# EAGLE library part MCP79522 (library NixieDisplay)
Real Time Clock (RTC) IC Clock/Calendar 64B SPI
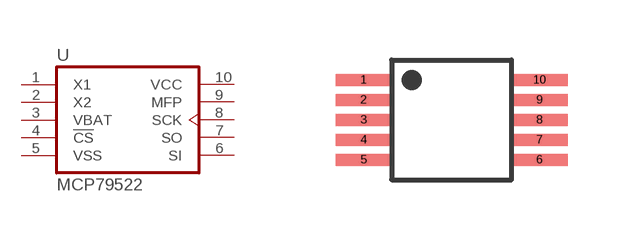
[diagram p9: symbol with the pads of MSOP-10; footprint MSOP-10]

Designator prefix U

## MCP79522  [MSOP-10]
1  X1
2  X2
3  VBAT  pwr
4  !CS
5  VSS  pwr
6  SI
7  SO
8  SCK
9  MFP
10  VCC  pwr

## Footprint MSOP-10 (pad centres in mm)
smd 1.4 x 0.3: 1 -2.2,1; 2 -2.2,0.5; 3 -2.2,0; 4 -2.2,-0.5; 5 -2.2,-1; 6 2.2,-1; 7 2.2,-0.5; 8 2.2,0; 9 2.2,0.5; 10 2.2,1